# Altium footprint library SMA_DIO-L.PcbLib: 1 footprints
Each footprint in its own frame and in the unit in brackets; x right, y up, seen from the top. Pads: shape width x height; smd on the part's side, far side on the other; paste and mask are expansions set on the pad; w line width, h text height; cw(c..) or ccw(c..) is an arc to the next point about the centre after c.
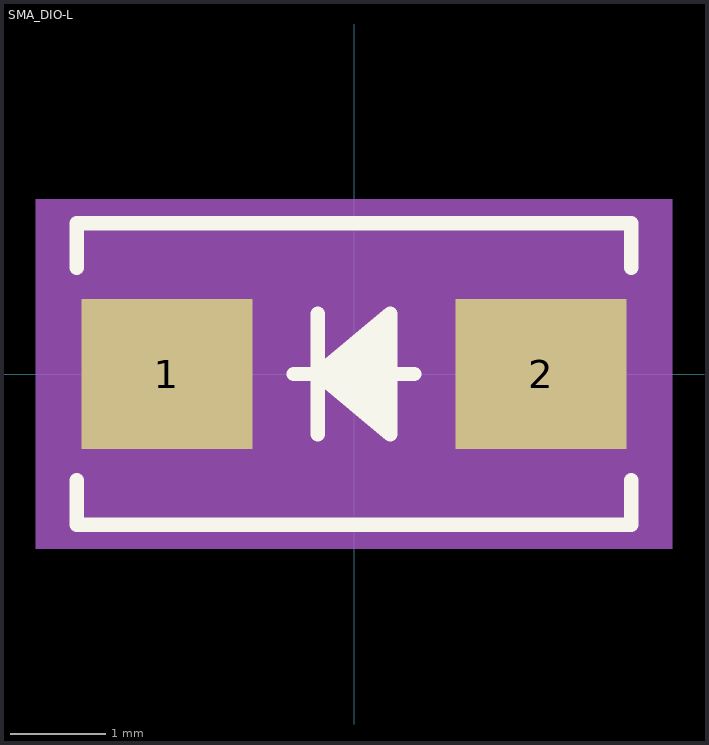
[diagram p0: the footprint, top view; thin cyan lines are the x and y axes]

## SMA_DIO-L [mm]
pads (2):
  rect 1.799x1.579 smd paste+0 mask+0: 1(-1.971,0) 2(1.971,0)
Top Overlay:
  lines w0.152: -2.922,-1.118 -2.922,-1.587 2.922,-1.587 2.922,-1.118 ; -2.922,1.118 -2.922,1.587 2.922,1.587 2.922,1.118 ; -0.636,0 0.634,0 ; -0.382,-0.635 -0.382,0.635 ; 0.38,-0.508 -0.382,0 ; 0.38,-0.381 -0.382,0 ; 0.38,-0.254 -0.382,0 ; 0.38,-0.127 -0.382,0 ; 0.38,0.127 -0.382,0 ; 0.38,0.254 -0.382,0 ; 0.38,0.381 -0.382,0 ; 0.38,0.508 -0.382,0 ; -0.382,0 0.38,0.635 0.38,-0.635 -0.382,0
Mechanical 5:
  region: 3.354,-1.841 -3.354,-1.841 -3.354,1.841 3.354,1.841
Mechanical 13:
  lines w0.025: -0.636,0 0.634,0 ; -0.382,-0.635 -0.382,0.635 ; 0.38,-0.508 -0.382,0 ; 0.38,-0.381 -0.382,0 ; 0.38,-0.254 -0.382,0 ; 0.38,-0.127 -0.382,0 ; 0.38,0.127 -0.382,0 ; 0.38,0.254 -0.382,0 ; 0.38,0.381 -0.382,0 ; 0.38,0.508 -0.382,0 ; -0.382,0 0.38,0.635 0.38,-0.635 -0.382,0 ; -2.795,-1.46 2.795,-1.46 2.795,1.46 -2.795,1.46 -2.795,-1.46
Mechanical 15:
  region: -2.897,-0.917 -2.973,-0.917 -2.973,0.917 -2.897,0.917 -2.897,1.562 2.897,1.562 2.897,0.917 2.973,0.917 2.973,-0.917 2.897,-0.917 2.897,-1.562 -2.897,-1.562
  lines w0.152: -2.973,-0.917 -2.973,0.917 -2.897,0.917 -2.897,1.562 2.897,1.562 2.897,0.917 2.973,0.917 2.973,-0.917 2.897,-0.917 2.897,-1.562 -2.897,-1.562 -2.897,-0.917 -2.973,-0.917
3D body "SMA_DIO.step": height 2.35, standoff 0, extent -2.795,-1.46 2.795,1.46